# EAGLE library part CARD_EDGE (library molex_046114)
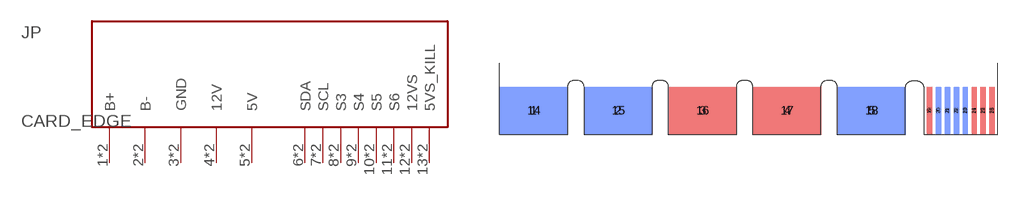
[diagram p0: symbol with the pads of CARD_EDGE; footprint CARD_EDGE]

Designator prefix JP

## CARD_EDGE  [CARD_EDGE]
1  B+
2  B-
3  GND
4  12V
5  5V
6  SDA
7  SCL
8  S3
9  S4
10  S5
11  S6
12  12VS
13  5VS_KILL
14  B+
15  B-
16  GND
17  12V
18  5V
19  SDA
20  SCL
21  S3
22  S4
23  S5
24  S6
25  12VS
26  5VS_KILL

## Footprint CARD_EDGE (pad centres in mm)
smd 9.73 x 6.7 bottom: 1 4.87,3.35
smd 9.728 x 6.706 bottom: 2 16.87,3.35; 3 28.87,3.35; 4 40.87,3.35; 5 52.87,3.35
smd 0.76 x 6.7 bottom: 6 61.1,3.35; 7 62.37,3.35; 8 63.64,3.35; 9 64.91,3.35; 10 66.18,3.35; 11 67.45,3.35; 12 68.72,3.35; 13 69.99,3.35
smd 9.73 x 6.7: 14 4.87,3.35
smd 9.728 x 6.706: 15 16.87,3.35; 16 28.87,3.35; 17 40.87,3.35; 18 52.87,3.35
smd 0.76 x 6.7: 19 61.1,3.35; 20 62.37,3.35; 21 63.64,3.35; 22 64.91,3.35; 23 66.18,3.35; 24 67.45,3.35; 25 68.72,3.35; 26 69.99,3.35